# EAGLE library part M29W160EB (library NewSDR)
16 Mbit Flash Memory 3V 48-TSOP
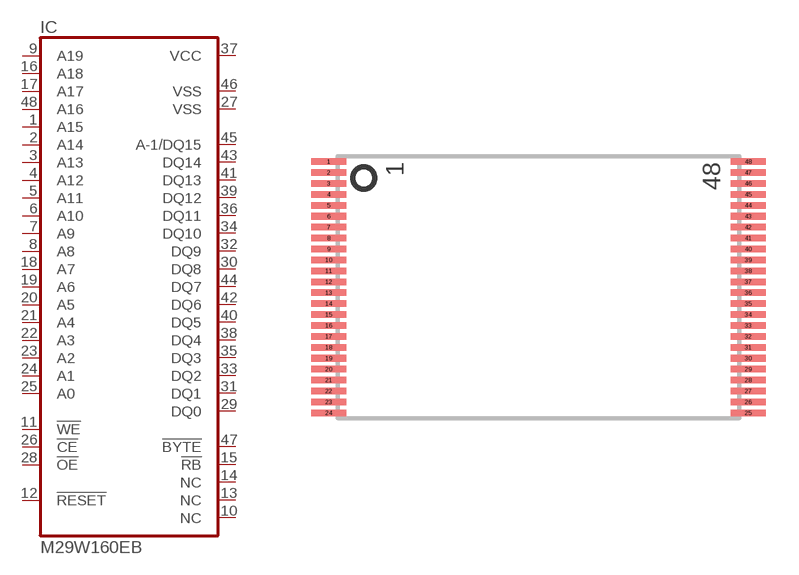
[diagram p42: symbol with the pads of TSOP48; footprint TSOP48]

Designator prefix IC

## M29W160EB  [TSOP48]
1  A15  in
2  A14  in
3  A13  in
4  A12  in
5  A11  in
6  A10  in
7  A9  in
8  A8  in
9  A19  in
10  NC  nc
11  !WE  in
12  !RESET  in
13  NC  nc
14  NC  nc
15  !RB  out
16  A18  in
17  A17  in
18  A7  in
19  A6  in
20  A5  in
21  A4  in
22  A3  in
23  A2  in
24  A1  in
25  A0  in
26  !CE  in
27  VSS  pwr
28  !OE  in
29  DQ0  hiz
30  DQ8  hiz
31  DQ1  hiz
32  DQ9  hiz
33  DQ2  hiz
34  DQ10  hiz
35  DQ3  hiz
36  DQ11  hiz
37  VCC  pwr
38  DQ4  hiz
39  DQ12  hiz
40  DQ5  hiz
41  DQ13  hiz
42  DQ6  hiz
43  DQ14  hiz
44  DQ7  hiz
45  A-1/DQ15  hiz
46  VSS  pwr
47  !BYTE  in
48  A16  in

## Footprint TSOP48 (pad centres in mm)
Thin Small Outline Package
smd 1.6 x 0.3: 1 -9.6,5.75; 2 -9.6,5.25; 3 -9.6,4.75; 4 -9.6,4.25; 5 -9.6,3.75; 6 -9.6,3.25; 7 -9.6,2.75; 8 -9.6,2.25; 9 -9.6,1.75; 10 -9.6,1.25; 11 -9.6,0.75; 12 -9.6,0.25; 13 -9.6,-0.25; 14 -9.6,-0.75; 15 -9.6,-1.25; 16 -9.6,-1.75; 17 -9.6,-2.25; 18 -9.6,-2.75; 19 -9.6,-3.25; 20 -9.6,-3.75; 21 -9.6,-4.25; 22 -9.6,-4.75; 23 -9.6,-5.25; 24 -9.6,-5.75; 25 9.6,-5.75; 26 9.6,-5.25; 27 9.6,-4.75; 28 9.6,-4.25; 29 9.6,-3.75; 30 9.6,-3.25; 31 9.6,-2.75; 32 9.6,-2.25; 33 9.6,-1.75; 34 9.6,-1.25; 35 9.6,-0.75; 36 9.6,-0.25; 37 9.6,0.25; 38 9.6,0.75; 39 9.6,1.25; 40 9.6,1.75; 41 9.6,2.25; 42 9.6,2.75; 43 9.6,3.25; 44 9.6,3.75; 45 9.6,4.25; 46 9.6,4.75; 47 9.6,5.25; 48 9.6,5.75